# EAGLE library part ADUM5010ARSZ-RL7 (library DC-DC Converter)
DC DC CONVERTER 3.15-5.25V 150MW Manufacturer's datasheet <https://www.analog.com/media/en/technical-documentation/data-sheets/ADuM5010.pdf>
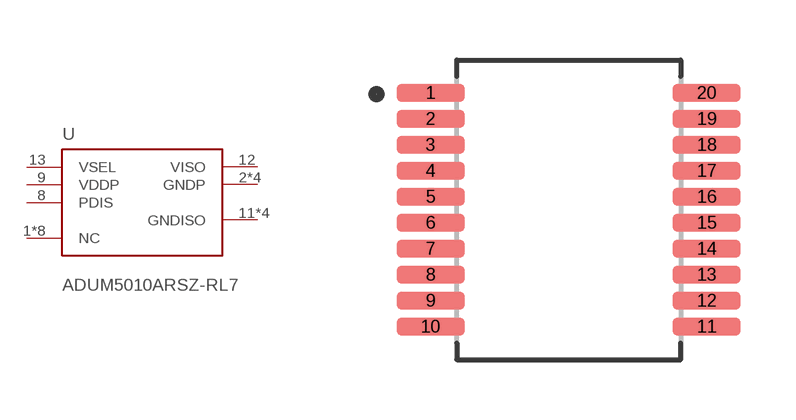
[diagram p0: symbol with the pads of SSOP_20; footprint SSOP_20]

Designator prefix U

## ADUM5010ARSZ-RL7 (CREATED_BY: PCBLayout.com; DIGIKEY_PARTNO: ADUM5010ARSZ-RL7TR-ND; MANUFACTURER: Analog Devices Inc.; MPN: ADUM5010ARSZ-RL7)  [SSOP_20]
1  NC  pas
2  GNDP  pwr
3  NC  pas
4  NC  pas
5  GNDP  pwr
6  GNDP  pwr
7  NC  pas
8  PDIS  pas
9  VDDP  pwr
10  GNDP  pwr
11  GNDISO  pwr
12  VISO  out
13  VSEL  in
14  NC  pas
15  GNDISO  pwr
16  GNDISO  pwr
17  NC  pas
18  NC  pas
19  GNDISO  pwr
20  NC  pas

## Footprint SSOP_20 (pad centres in mm)
Small Outline Pkg (SOP), 0.65 mm pitch; 20 pin, 7.20 mm L X 5.30 mm W X 2.00 mm H body PCB Libraries Packages
smd 1.7 x 0.46: 1 -3.455,2.925; 2 -3.455,2.275; 3 -3.455,1.625; 4 -3.455,0.975; 5 -3.455,0.325; 6 -3.455,-0.325; 7 -3.455,-0.975; 8 -3.455,-1.625; 9 -3.455,-2.275; 10 -3.455,-2.925; 11 3.455,-2.925; 12 3.455,-2.275; 13 3.455,-1.625; 14 3.455,-0.975; 15 3.455,-0.325; 16 3.455,0.325; 17 3.455,0.975; 18 3.455,1.625; 19 3.455,2.275; 20 3.455,2.925